# EAGLE library part M25PE20 (library harrison)
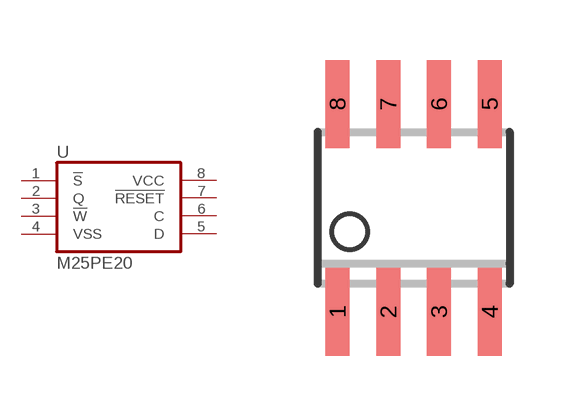
[diagram p48: symbol with the pads of SOIC8; footprint SOIC8]

Designator prefix U

## M25PE20  [SOIC8]
1  !S!  in
2  Q  out
3  !W!  in
4  VSS  pwr
5  D  in
6  C  in
7  !RESET!  in
8  VCC  pwr

## Footprint SOIC8 (pad centres in mm)
smd 0.6 x 2.2: 1 -1.905,-2.6; 2 -0.635,-2.6; 3 0.635,-2.6; 4 1.905,-2.6; 5 1.905,2.6; 6 0.635,2.6; 7 -0.635,2.6; 8 -1.905,2.6